# EAGLE library part BLEMICRO (library DECADE-libraries20151104)
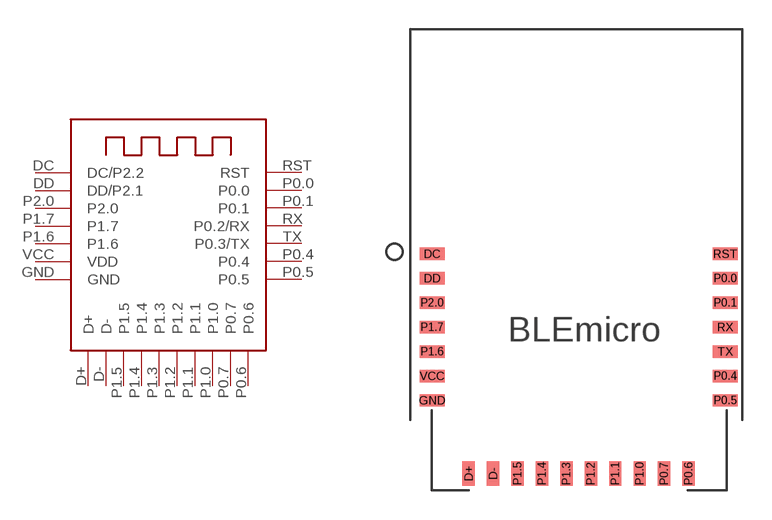
[diagram p124: symbol with the pads of BLEMICRO; footprint BLEMICRO]

Designator prefix -

## BLEMICRO  [BLEMICRO]
D+  D+
D-  D-
DC  DC/P2.2
DD  DD/P2.1
GND  GND
P0.0  P0.0
P0.1  P0.1
P0.4  P0.4
P0.5  P0.5
P0.6  P0.6
P0.7  P0.7
P1.0  P1.0
P1.1  P1.1
P1.2  P1.2
P1.3  P1.3
P1.4  P1.4
P1.5  P1.5
P1.6  P1.6
P1.7  P1.7
P2.0  P2.0
RST  RST
RX  P0.2/RX
TX  P0.3/TX
VCC  VDD

## Footprint BLEMICRO (pad centres in mm)
smd 0.635 x 1.27: D+ 0,1.25; D- 1.25,1.25; P0.6 11.25,1.25; P0.7 10,1.25; P1.0 8.75,1.25; P1.1 7.5,1.25; P1.2 6.25,1.25; P1.3 5,1.25; P1.4 3.75,1.25; P1.5 2.5,1.25
smd 1.27 x 0.635: DC -1.87,12.5; DD -1.87,11.25; GND -1.87,5; P0.0 13.125,11.25; P0.1 13.125,10; P0.4 13.125,6.25; P0.5 13.125,5; P1.6 -1.87,7.5; P1.7 -1.87,8.75; P2.0 -1.87,10; RST 13.125,12.5; RX 13.125,8.75; TX 13.125,7.5; VCC -1.87,6.25